# EAGLE library part PINHD-2X3 (library pinhead)
PIN HEADER
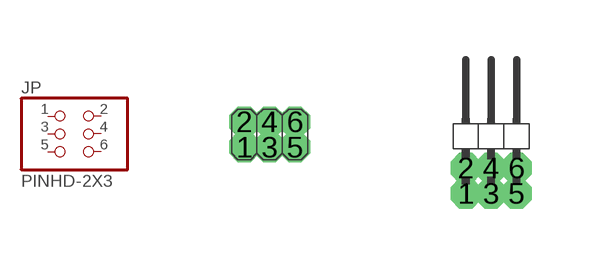
[diagram p20: symbol with the pads of 2X03; footprints 2X03, 2X03/90]

Designator prefix JP

## PINHD-2X3  [2X03]
1  1  pas
2  2  pas
3  3  pas
4  4  pas
5  5  pas
6  6  pas

## PINHD-2X3/90  [2X03/90]
Pads as for 2X03

## Footprint 2X03 (pad centres in mm)
PIN HEADER
drill 0.254 octagon: 1 -0.635,-0.318; 2 -0.635,0.318; 3 0,-0.318; 4 0,0.318; 5 0.635,-0.318; 6 0.635,0.318

## Footprint 2X03/90 (pad centres in mm)
PIN HEADER
drill 0.254 octagon: 1 -0.635,-1.587; 2 -0.635,-0.953; 3 0,-1.587; 4 0,-0.953; 5 0.635,-1.587; 6 0.635,-0.953